# Altium footprint library PcbLib1.PcbLib: 4 footprints
Each footprint in its own frame and in the unit in brackets; x right, y up, seen from the top. Pads: shape width x height; smd on the part's side, far side on the other; paste and mask are expansions set on the pad; w line width, h text height; cw(c..) or ccw(c..) is an arc to the next point about the centre after c.
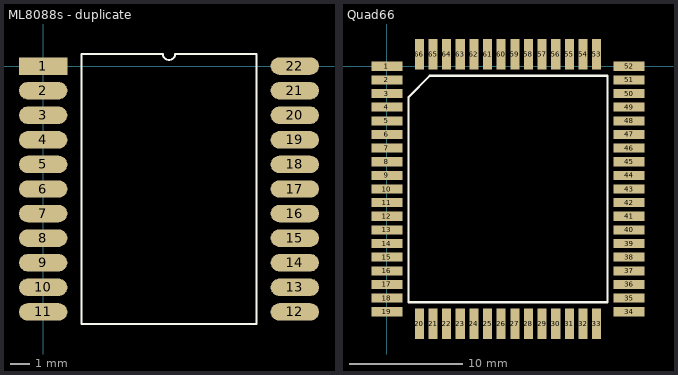
[diagram p0: the footprints below, top view; thin cyan lines are the x and y axes]

## ML8088s [mm]

## ML8088s - duplicate [mm]
pads (22):
  rect 2.5x0.9 smd: 1(0,0)
  oval 2.5x0.9 smd: 2(0,-1.27) 3(0,-2.54) 4(0,-3.81) 5(0,-5.08) 6(0,-6.35) 7(0,-7.62) 8(0,-8.89) 9(0,-10.16) 10(0,-11.43) 11(0,-12.7) 12(13,-12.7) 13(13,-11.43) 14(13,-10.16) 15(13,-8.89) 16(13,-7.62) 17(13,-6.35) 18(13,-5.08) 19(13,-3.81) 20(13,-2.54) 21(13,-1.27) 22(13,0)
Top Overlay:
  lines w0.1: 1.985,-13.335 1.985,0.635 6.182,0.635 ccw(c6.5,0.635) 6.817,0.635 11.015,0.635 11.015,-13.335 1.985,-13.335

## PCBComponent_1 [mm]

## Quad66 [mm]
pads (66):
  rect 2.7x0.8 smd: 1(0,0) 2(0,-1.2) 3(0,-2.4) 4(0,-3.6) 5(0,-4.8) 6(0,-6) 7(0,-7.2) 8(0,-8.4) 9(0,-9.6) 10(0,-10.8) 11(0,-12) 12(0,-13.2) 13(0,-14.4) 14(0,-15.6) 15(0,-16.8) 16(0,-18) 17(0,-19.2) 18(0,-20.4) 19(0,-21.6) 34(21.3,-21.6) 35(21.3,-20.4) 36(21.3,-19.2) 37(21.3,-18) 38(21.3,-16.8) 39(21.3,-15.6) 40(21.3,-14.4) 41(21.3,-13.2) 42(21.3,-12) 43(21.3,-10.8) 44(21.3,-9.6) 45(21.3,-8.4) 46(21.3,-7.2) 47(21.3,-6) 48(21.3,-4.8) 49(21.3,-3.6) 50(21.3,-2.4) 51(21.3,-1.2) 52(21.3,0)
  rect 0.8x2.7 smd: 20(2.85,-22.65) 21(4.05,-22.65) 22(5.25,-22.65) 23(6.45,-22.65) 24(7.65,-22.65) 25(8.85,-22.65) 26(10.05,-22.65) 27(11.25,-22.65) 28(12.45,-22.65) 29(13.65,-22.65) 30(14.85,-22.65) 31(16.05,-22.65) 32(17.25,-22.65) 33(18.45,-22.65) 53(18.45,1.05) 54(17.25,1.05) 55(16.05,1.05) 56(14.85,1.05) 57(13.65,1.05) 58(12.45,1.05) 59(11.25,1.05) 60(10.05,1.05) 61(8.85,1.05) 62(7.65,1.05) 63(6.45,1.05) 64(5.25,1.05) 65(4.05,1.05) 66(2.85,1.05)
Top Overlay:
  lines w0.2: 1.885,-20.765 19.415,-20.765 19.415,-0.835 3.77,-0.835 1.885,-2.72 1.885,-20.765